# Altium footprint library Main.PcbLib: 19 footprints (part 2 of 2)
Each footprint in its own frame and in the unit in brackets; x right, y up, seen from the top. Pads: shape width x height; smd on the part's side, far side on the other; paste and mask are expansions set on the pad; w line width, h text height; cw(c..) or ccw(c..) is an arc to the next point about the centre after c.
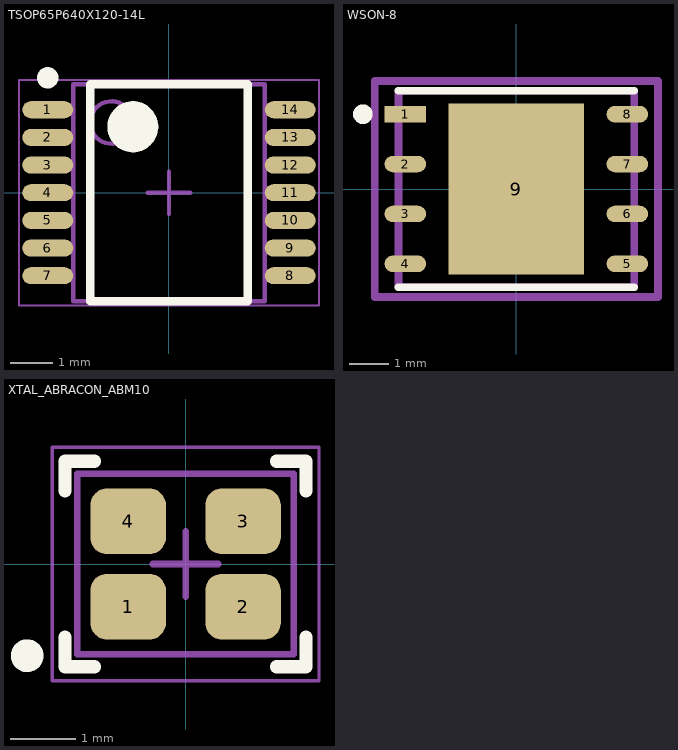
[diagram p1: the footprints below, top view; thin cyan lines are the x and y axes]

## TSOP65P640X120-14L [mm] "TSOP, 14-Leads, Body 5.00x4.40mm, Pitch 0.65mm, IPC High Density"
height 1.2
pads (14):
  oval 1.2x0.4 smd: 1(-2.85,1.95) 2(-2.85,1.3) 3(-2.85,0.65) 4(-2.85,0) 5(-2.85,-0.65) 6(-2.85,-1.3) 7(-2.85,-1.95) 8(2.85,-1.95) 9(2.85,-1.3) 10(2.85,-0.65) 11(2.85,0) 12(2.85,0.65) 13(2.85,1.3) 14(2.85,1.95)
Top Overlay:
  circle w0.6: c-0.85,1.55 r0.3
  circle w0.25: c-2.85,2.7 r0.125
  lines w0.2: -1.85,-2.55 1.85,-2.55 1.85,2.55 -1.85,2.55 -1.85,-2.55
Top Assembly:
  circle w0.1: c-1.35,1.65 r0.5
  lines w0.1: -2.25,-2.55 2.25,-2.55 2.25,2.55 -2.25,2.55 -2.25,-2.55
Top Courtyard:
  lines w0.05: -3.525,-2.65 3.525,-2.65 3.525,2.65 -3.525,2.65 -3.525,-2.65
  lines w0.1: -0.5,0 0.5,0 ; 0,-0.5 0,0.5
3D body "TSOP65P640X120-14L.step": height 1.2, standoff 0, extent -3.2,-2.55 3.2,2.55

## WSON-8 [mm]
pads (9):
  rect 1.061x0.418 smd paste+0 mask+0: 1(-2.826,1.905)
  rrect100% 1.061x0.418 smd paste+0 mask+0: 2(-2.826,0.635) 3(-2.826,-0.635) 4(-2.826,-1.905) 5(2.826,-1.905) 6(2.826,-0.635) 7(2.826,0.635) 8(2.826,1.905)
  rect 3.45x4.35 smd paste-1000 mask+0: 9(0,0)
Top Overlay:
  circle w0.25: c-3.906,1.905 r0.125
  lines w0.2: -3,-2.5 3,-2.5 ; -3,2.5 3,2.5
Top Paste:
  rectangle: -1.021,-1.471 1.021,1.471
Top 3D Body:
  lines w0.2: -3,-2.5 3,-2.5 3,2.5 -3,2.5 -3,-2.5
Top Assembly:
  lines w0.2: -3.606,-2.75 3.606,-2.75 3.606,2.75 -3.606,2.75 -3.606,-2.75
Top Courtyard:
  lines w0.2: -3.606,-2.75 3.606,-2.75 3.606,2.75 -3.606,2.75 -3.606,-2.75
Top Component Center:
  lines w0.1: -0.5,0 0.5,0 ; 0,-0.5 0,0.5
3D body "IC_Winbond_W25Q16JVZPIQ_TR_eec.STEP": height 0.25, standoff 0, extent -3.606,-2.75 3.606,2.75

## XTAL_ABRACON_ABM10 [mm]
pads (4):
  rrect50% 1.15x1 smd paste+0: 1(-0.875,-0.65) 2(0.875,-0.65) 3(0.875,0.65) 4(-0.875,0.65)
Top Overlay:
  circle w0.25: c-2.413,-1.397 r0.125
  lines w0.2: -1.836,-1.116 -1.836,-1.566 -1.386,-1.566 ; -1.836,1.116 -1.836,1.566 -1.386,1.566 ; 1.386,-1.566 1.836,-1.566 1.836,-1.116 ; 1.386,1.566 1.836,1.566 1.836,1.116
Mechanical 13:
  lines w0.1: -1.651,1.375 -1.65,-1.375 1.65,-1.375 1.65,1.375 -1.65,1.375
Mechanical 15:
  lines w0.05: -2.032,-1.778 2.032,-1.778 2.032,1.778 -2.032,1.778 -2.032,-1.778
  lines w0.1: -0.5,0 0.5,0 ; 0,-0.5 0,0.5
3D body "Quartz_Crystal_ABM10-166.step": height 0.5, standoff 0, extent -1.25,-0.984 1.25,1.016